# EAGLE library part MF2X6M (library gost_con_mini-fit)
Molex Mini-Fit Jr.™ Connectors
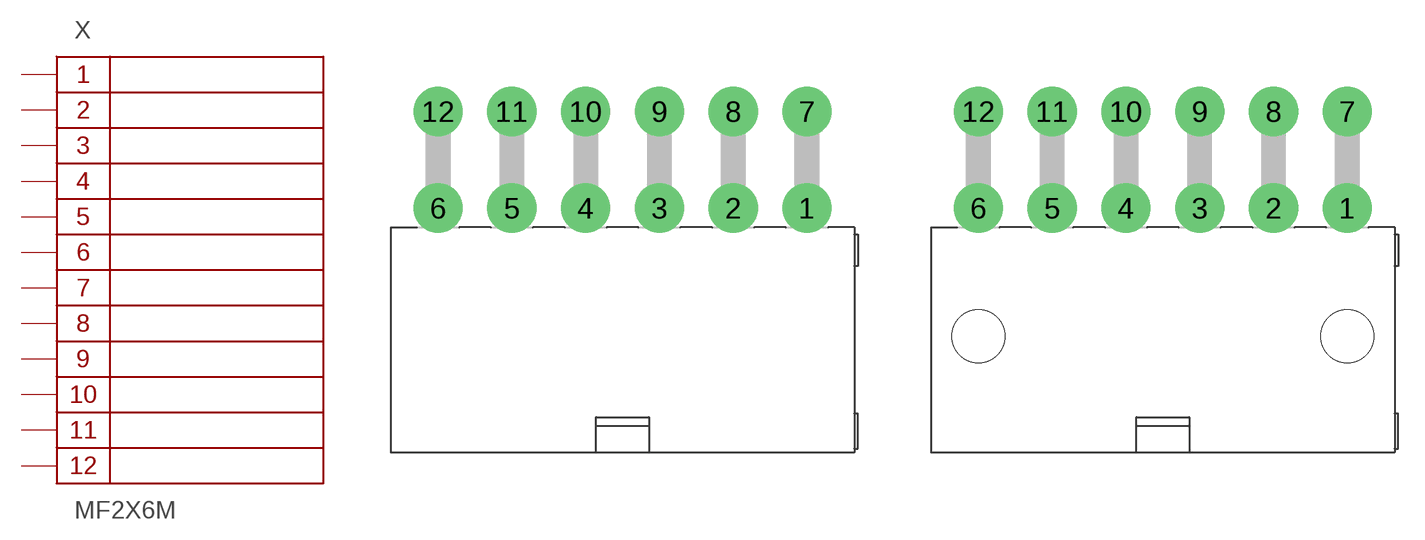
[diagram p5: symbol with the pads of MF2X6MR; footprints MF2X6MR, MF2X6MRA]

Designator prefix X

## MF2X6MR  [MF2X6MR]
1  1
2  2
3  3
4  4
5  5
6  6
7  7
8  8
9  9
10  10
11  11
12  12

## MF2X6MRA  [MF2X6MRA]
Pads as for MF2X6MR

## MF2X6MA  [MF2X6MA]
Pads as for MF2X6MR

## MF2X6MRB  [MF2X6MRB]
Pads as for MF2X6MR

## Footprint MF2X6MR (pad centres in mm)
drill 1.8 pad 2.8: 1 10.5,-2.1; 2 6.3,-2.1; 3 2.1,-2.1; 4 -2.1,-2.1; 5 -6.3,-2.1; 6 -10.5,-2.1; 7 10.5,3.4; 8 6.3,3.4; 9 2.1,3.4; 10 -2.1,3.4; 11 -6.3,3.4; 12 -10.5,3.4

## Footprint MF2X6MRA (pad centres in mm)
drill 1.8 pad 2.8: 1 10.5,-2.1; 2 6.3,-2.1; 3 2.1,-2.1; 4 -2.1,-2.1; 5 -6.3,-2.1; 6 -10.5,-2.1; 7 10.5,3.4; 8 6.3,3.4; 9 2.1,3.4; 10 -2.1,3.4; 11 -6.3,3.4; 12 -10.5,3.4
hole 3 at -10.5,-9.4
hole 3 at 10.5,-9.4

## Footprint MF2X6MA (pad centres in mm)
drill 1.4 pad 2.6: 1 10.5,-2.75; 2 6.3,-2.75; 3 2.1,-2.75; 4 -2.1,-2.75; 5 -6.3,-2.75; 6 -10.5,-2.75; 7 10.5,2.75; 8 6.3,2.75; 9 2.1,2.75; 10 -2.1,2.75; 11 -6.3,2.75; 12 -10.5,2.75

## Footprint MF2X6MRB (pad centres in mm)
drill 1.8 pad 2.8: 1 10.5,-2.1; 2 6.3,-2.1; 3 2.1,-2.1; 4 -2.1,-2.1; 5 -6.3,-2.1; 6 -10.5,-2.1; 7 10.5,3.4; 8 6.3,3.4; 9 2.1,3.4; 10 -2.1,3.4; 11 -6.3,3.4; 12 -10.5,3.4
hole 2.4 at 15.1,-6.3
hole 2.4 at -15.1,-6.3